# EAGLE library part 2X4-90 (library JLB6_Connec)
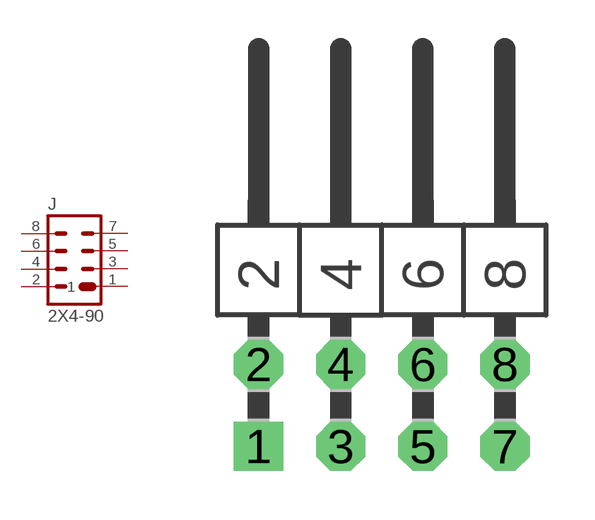
[diagram p3: symbol with the pads of 2X4-90; footprint 2X4-90]

Designator prefix J

## 2X4-90  [2X4-90]
1  1  pas
2  2  pas
3  3  pas
4  4  pas
5  5  pas
6  6  pas
7  7  pas
8  8  pas

## Footprint 2X4-90 (pad centres in mm)
drill 1.016 square: 1 -1.27,-1.27
drill 1.016 octagon: 2 -1.27,1.27; 3 1.27,-1.27; 4 1.27,1.27; 5 3.81,-1.27; 6 3.81,1.27; 7 6.35,-1.27; 8 6.35,1.27